# Altium schematic symbol library DRIVER.SchLib: 2 symbols
Pins are listed as number, name and electrical type; pins without a type are passive.

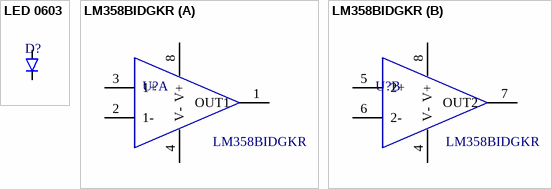
[diagram p0: symbols LED 0603 to LM358BIDGKR]

## LED 0603
designator D?  (value not drawn)
footprint LED0603
pins: 1 K, 2 A

## LM358BIDGKR
designator U?  Manufacturer Part Number: LM358BIDGKR  (hidden comment: *)
IC OPAMP GP 2 CIRCUIT 8VSSOP
footprint 8-VSSOP (TSOP, 8-Leads, Body 3.00x3.00mm, Pitch 0.65mm, IPC Medium Density)
part A pins: 1 OUT1, 2 1-, 3 1+, 4 V-, 8 V+
part B pins: 4 V-, 5 2+, 6 2-, 7 OUT2, 8 V+